# Altium footprint library EDC_Power_Adapter.PcbLib: 5 footprints
Each footprint in its own frame and in the unit in brackets; x right, y up, seen from the top. Pads: shape width x height; smd on the part's side, far side on the other; paste and mask are expansions set on the pad; w line width, h text height; cw(c..) or ccw(c..) is an arc to the next point about the centre after c.
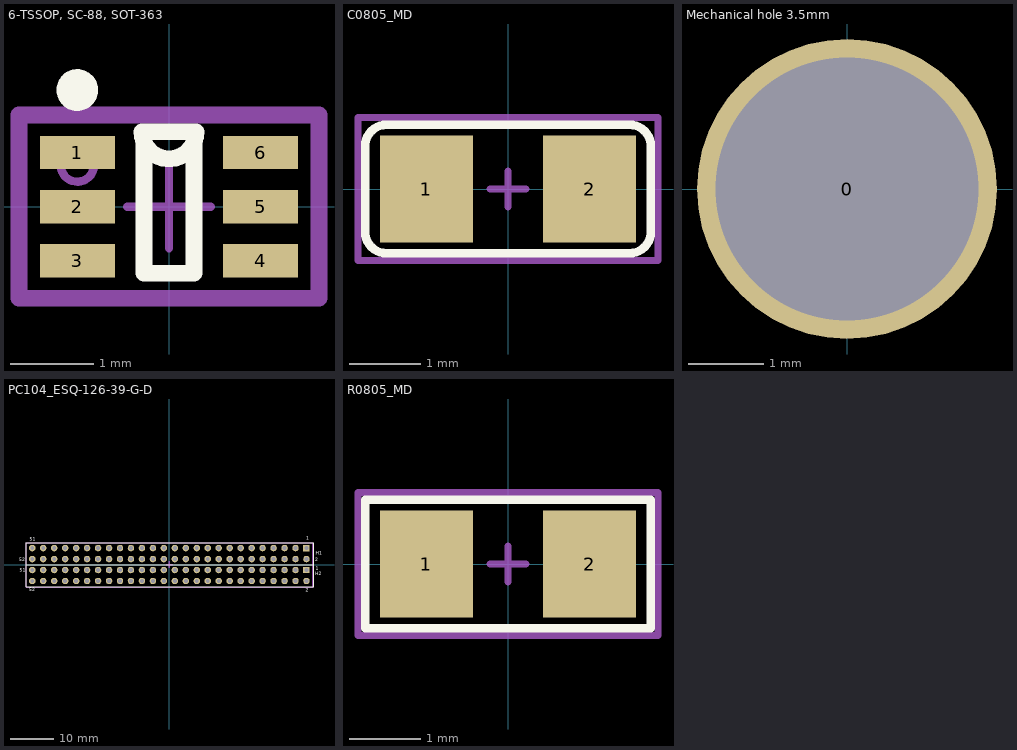
[diagram p0: the footprints below, top view; thin cyan lines are the x and y axes]

## 6-TSSOP, SC-88, SOT-363 [mm]
pads (6):
  rect 0.9x0.4 smd: 1(-1.1,0.65) 2(-1.1,0) 3(-1.1,-0.65) 4(1.1,-0.65) 5(1.1,0) 6(1.1,0.65)
Top Overlay:
  circle w0.25: c-1.1,1.4 r0.125
  lines w0.2: -0.3,0.9 -0.3,-0.8 0.3,-0.8 0.3,0.9 -0.325,0.9 ccw(c0,0.9) 0.325,0.9
Top Assembly:
  circle w0.1: c-1.1,0.5 r0.2
  lines w0.1: -0.5,0 0.5,0 ; 0,-0.5 0,0.5
  lines w0.2: -1.8,-1.1 1.8,-1.1 1.8,1.1 -0.525,1.1 -1.8,1.1 -1.8,-1.1
  text "'.Designator'" at -1.65,1.65 h1.2
3D body "DCK0006A.stp": height 1, standoff 0, extent -1.05,-1 1.05,1

## C0805_MD [mm] "Chip Capacitor, Body 2.0x1.3mm, IPC Medium Density"
height 1.1
pads (2):
  rect 1.3x1.5 smd: 1(-1.143,0) 2(1.143,0)
Top Overlay:
  lines w0.12: -2,-0.6 ccw(c-1.7,-0.6) -1.7,-0.9 1.7,-0.9 ccw(c1.7,-0.6) 2,-0.6 2,0.6 ccw(c1.7,0.6) 1.7,0.9 -1.7,0.9 ccw(c-1.7,0.6) -2,0.6 -2,-0.6
Top Assembly:
  lines w0.1: -0.25,0 0.25,0 ; 0,-0.25 0,0.25 ; -2.1,-1 -2.1,1 2.1,1 2.1,-1 -2.1,-1
  text "'.Designator'" at -1.65,0.55 h1.2
3D body "C0805.step": height 0.79, standoff 0, extent -1.254,-0.61 1.254,0.635

## Mechanical hole 3.5mm [mm]
pads (1):
  round 4 hole 3.5 mask+0: 0(0,0)

## PC104_ESQ-126-39-G-D [mm] "Connector; Header; 26x4 Position"
height 3.1
pads (104):
  rect 1.5x1.5 hole 0.9: H1-1(31.75,3.81) H2-1(31.75,-1.265)
  round 1.5 hole 0.9: H1-2(31.75,1.27) H1-3(29.21,3.81) H1-4(29.21,1.27) H1-5(26.67,3.81) H1-6(26.67,1.27) H1-7(24.13,3.81) H1-8(24.13,1.27) H1-9(21.59,3.81) H1-10(21.59,1.27) H1-11(19.05,3.81) H1-12(19.05,1.27) H1-13(16.51,3.81) H1-14(16.51,1.27) H1-15(13.97,3.81) H1-16(13.97,1.27) H1-17(11.405,3.81) H1-18(11.43,1.27) H1-19(8.89,3.81) H1-20(8.89,1.27) H1-21(6.35,3.81) H1-22(6.35,1.27) H1-23(3.81,3.81) H1-24(3.81,1.27) H1-25(1.27,3.81) H1-26(1.27,1.27) H1-27(-1.27,3.81) H1-28(-1.27,1.27) H1-29(-3.81,3.81) H1-30(-3.81,1.27) H1-31(-6.35,3.81) H1-32(-6.35,1.27) H1-33(-8.89,3.81) H1-34(-8.89,1.27) H1-35(-11.43,3.81) H1-36(-11.43,1.27) H1-37(-13.97,3.81) H1-38(-13.97,1.27) H1-39(-16.51,3.81) H1-40(-16.51,1.27) H1-41(-19.05,3.81) H1-42(-19.05,1.27) H1-43(-21.59,3.81) H1-44(-21.59,1.27) H1-45(-24.13,3.81) H1-46(-24.13,1.27) H1-47(-26.67,3.81) H1-48(-26.67,1.27) H1-49(-29.21,3.81) H1-50(-29.21,1.27) H1-51(-31.75,3.81) H1-52(-31.75,1.27) H2-2(31.75,-3.81) H2-3(29.21,-1.27) H2-4(29.21,-3.81) H2-5(26.67,-1.27) H2-6(26.67,-3.81) H2-7(24.13,-1.27) H2-8(24.13,-3.81) H2-9(21.59,-1.265) H2-10(21.59,-3.81) H2-11(19.05,-1.265) H2-12(19.05,-3.81) H2-13(16.51,-1.27) H2-14(16.51,-3.81) H2-15(13.97,-1.27) H2-16(13.97,-3.81) H2-17(11.405,-1.27) H2-18(11.43,-3.81) H2-19(8.89,-1.27) H2-20(8.89,-3.81) H2-21(6.35,-1.27) H2-22(6.35,-3.81) H2-23(3.81,-1.27) H2-24(3.81,-3.81) H2-25(1.27,-1.27) H2-26(1.27,-3.81) H2-27(-1.27,-1.27) H2-28(-1.27,-3.81) H2-29(-3.81,-1.27) H2-30(-3.81,-3.81) H2-31(-6.35,-1.27) H2-32(-6.35,-3.81) H2-33(-8.89,-1.27) H2-34(-8.89,-3.81) H2-35(-11.43,-1.27) H2-36(-11.43,-3.81) H2-37(-13.97,-1.27) H2-38(-13.97,-3.81) H2-39(-16.51,-1.27) H2-40(-16.51,-3.81) H2-41(-19.05,-1.27) H2-42(-19.05,-3.81) H2-43(-21.59,-1.27) H2-44(-21.59,-3.81) H2-45(-24.13,-1.27) H2-46(-24.13,-3.81) H2-47(-26.67,-1.27) H2-48(-26.67,-3.81) H2-49(-29.21,-1.27) H2-50(-29.21,-3.81) H2-51(-31.75,-1.27) H2-52(-31.75,-3.81)
Top Overlay:
  lines w0.2: -33.125,-5.115 33.425,-5.115 33.425,0.005 -33.125,0.005 -33.125,-5.115 ; -33.125,0 -33.125,5.08 33.425,5.08 33.425,0 -33.125,0
  text "1" at 33.9,-1.29 h0.75
  text "2" at 31.53,-6.27 h0.75
  text "2" at 33.81,0.72 h0.75
  text "1" at 31.72,5.77 h0.75
  text "52" at -32.49,-6.23 h0.75
  text "51" at -34.63,-1.64 h0.75
  text "51" at -32.37,5.47 h0.75
  text "52" at -34.82,0.71 h0.75
  text "H2" at 33.78,-2.48 h0.75
  text "H1" at 33.84,2.29 h0.75
Top Assembly:
  lines w0.1: -33.125,-5.215 -33.125,5.085 33.225,5.085 33.225,-5.215 -33.125,-5.215
  lines w0.3: -0.75,0 0.75,0 ; 0,-0.75 0,-0.375 0,0.375 0,0.75
  text "PC104" at -4.3,4.4 h2
  text "'.Designator'" at 3.366,2.2 h2
3D body "ESQ-126-39-G-D.stp": height 11.06, standoff -12.18, extent -33.274,-0.015 33.274,5.065
3D body "ESQ-126-39-G-D.stp": height 11.06, standoff -12.18, extent -33.273,-5.065 33.275,0.015

## R0805_MD [mm] "Chip Resistor, Body 2.0x1.3mm, IPC Medium Density"
height 1.1
pads (2):
  rect 1.3x1.5 smd: 1(-1.143,0) 2(1.143,0)
Top Overlay:
  lines w0.12: -2,-0.9 -2,0.9 2,0.9 2,-0.9 -2,-0.9
Top Assembly:
  lines w0.1: -0.25,0 0.25,0 ; 0,-0.25 0,0.25 ; -2.1,-1 2.1,-1 2.1,1 -2.1,1 -2.1,-1
  text "'.Designator'" at -1.75,0.45 h1.2
3D body "Flat Chip Resistor 0805(2012M).step": height 0.47, standoff 0, extent -1,-0.625 1,0.627